# Altium integrated library POLOLU-713.IntLib: 1 symbol
Pins are listed as number, name and electrical type; pins without a type are passive.

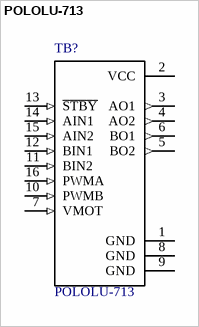
[diagram p0: symbol POLOLU-713]

## POLOLU-713
designator TB?
DC-motor driver; IC: TB6612FNG; 100kHz; 1A; Uin mot: 4.5; MF: Pololu; MP: POLOLU-713; SnapEDA_Link: https://www.snapeda.com/parts/POLOLU-713/Pololu/view-part/?ref=snap; Availability: Unavailable; Package: None; Price: None; Value: *
footprint *SHIELD_POLOLU-713
pins: 1 GND (power), 2 VCC (power), 3 AO1 (out), 4 AO2 (out), 5 BO2 (out), 6 BO1 (out), 7 VMOT (in), 8 GND (power), 9 GND (power), 10 PWMB (in), 11 BIN2 (in), 12 BIN1 (in), 13 ~{STBY} (in), 14 AIN1 (in), 15 AIN2 (in), 16 PWMA (in)